# EAGLE library part FPC-6P-CONNECTOR (library _openSX70)
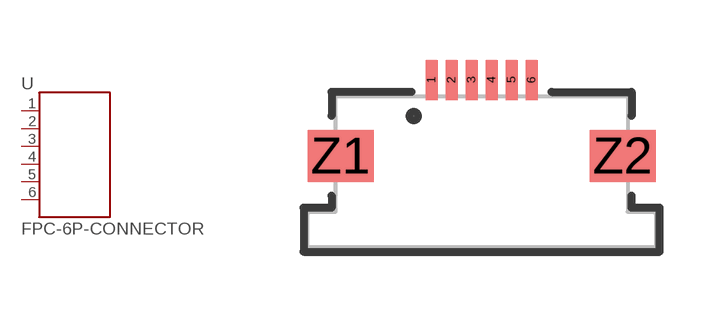
[diagram p2: symbol with the pads of 687106183722; footprint 687106183722]

Designator prefix -

## FPC-6P-CONNECTOR  [687106183722]
1  1  pas
2  2  pas
3  3  pas
4  4  pas
5  5  pas
6  6  pas

## Footprint 687106183722 (pad centres in mm)
WR-FPC 0.50 mm SMT ZIF Horizontal Bottom Contact Low Profile ,6Pins
smd 0.3 x 1: 1 -1.25,2.3; 2 -0.75,2.3; 3 -0.25,2.3; 4 0.25,2.3; 5 0.75,2.3; 6 1.25,2.3
smd 1.65 x 1.3: Z1 -3.525,0.4; Z2 3.525,0.4